# Altium integrated library WE-PD (rev22a).IntLib: 359 symbols (part 6 of 6)
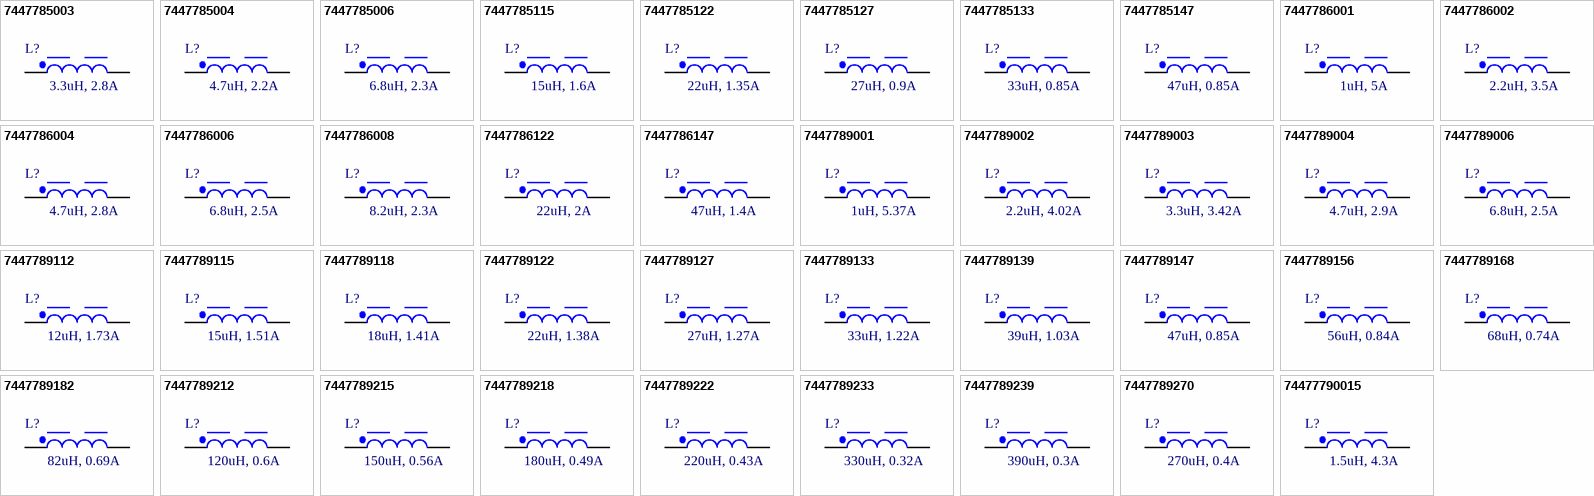
[diagram p13: symbols 7447785003 to 74477790015]

## 7447789006
designator L?, comment 6.8uH, 2.5A
WE-PD SMT Power Inductor, size 7332R, 6.8uH, 2.5A, 44mOhm; Manufacturer: Wurth Elektronik; Manufacturer Part Number: 7447789006; Self Resonant Frequency: 38MHz; DC Resistance typ.: 42mOhm; Saturation Current: 2.75A; Type: Robust; ComponentLink1Description: Manufacturer; ComponentLink1URL: http://www.we-online.de; ComponentLink2Description: Datasheet; ComponentLink2URL: https://www.we-online.com/catalog/datasheet/7447789006.pdf; Mounting Technology: SMT; Operating Temperature: -40 to +125degC; Packaging: Tape and Reel; DC Resistance max.: 44mOhm; Inductance: 6.8uH; Rated Current: 2.5A; Size: 7332R; Height: 3.2mm; Length: 7.3mm; Width: 7.3mm
footprint WE-PD_7332R
pins: 1, 2

## 7447789112
designator L?, comment 12uH, 1.73A
WE-PD SMT Power Inductor, size 7332R, 12uH, 1.73A, 98mOhm; Manufacturer: Wurth Elektronik; Manufacturer Part Number: 7447789112; Self Resonant Frequency: 27MHz; DC Resistance typ.: 76mOhm; Saturation Current: 1.9A; Type: Robust; ComponentLink1Description: Manufacturer; ComponentLink1URL: http://www.we-online.de; ComponentLink2Description: Datasheet; ComponentLink2URL: https://www.we-online.com/catalog/datasheet/7447789112.pdf; Mounting Technology: SMT; Operating Temperature: -40 to +125degC; Packaging: Tape and Reel; DC Resistance max.: 98mOhm; Inductance: 12uH; Rated Current: 1.73A; Size: 7332R; Height: 3.2mm; Length: 7.3mm; Width: 7.3mm
footprint WE-PD_7332R
pins: 1, 2

## 7447789115
designator L?, comment 15uH, 1.51A
WE-PD SMT Power Inductor, size 7332R, 15uH, 1.51A, 130mOhm; Manufacturer: Wurth Elektronik; Manufacturer Part Number: 7447789115; Self Resonant Frequency: 26MHz; DC Resistance typ.: 100mOhm; Saturation Current: 1.75A; Type: Robust; ComponentLink1Description: Manufacturer; ComponentLink1URL: http://www.we-online.de; ComponentLink2Description: Datasheet; ComponentLink2URL: https://www.we-online.com/catalog/datasheet/7447789115.pdf; Mounting Technology: SMT; Operating Temperature: -40 to +125degC; Packaging: Tape and Reel; DC Resistance max.: 130mOhm; Inductance: 15uH; Rated Current: 1.51A; Size: 7332R; Height: 3.2mm; Length: 7.3mm; Width: 7.3mm
footprint WE-PD_7332R
pins: 1, 2

## 7447789118
designator L?, comment 18uH, 1.41A
WE-PD SMT Power Inductor, size 7332R, 18uH, 1.41A, 140mOhm; Manufacturer: Wurth Elektronik; Manufacturer Part Number: 7447789118; Self Resonant Frequency: 24MHz; DC Resistance typ.: 114mOhm; Saturation Current: 1.7A; Type: Robust; ComponentLink1Description: Manufacturer; ComponentLink1URL: http://www.we-online.de; ComponentLink2Description: Datasheet; ComponentLink2URL: https://www.we-online.com/catalog/datasheet/7447789118.pdf; Mounting Technology: SMT; Operating Temperature: -40 to +125degC; Packaging: Tape and Reel; DC Resistance max.: 140mOhm; Inductance: 18uH; Rated Current: 1.41A; Size: 7332R; Height: 3.2mm; Length: 7.3mm; Width: 7.3mm
footprint WE-PD_7332R
pins: 1, 2

## 7447789122
designator L?, comment 22uH, 1.38A
WE-PD SMT Power Inductor, size 7332R, 22uH, 1.38A, 190mOhm; Manufacturer: Wurth Elektronik; Manufacturer Part Number: 7447789122; Self Resonant Frequency: 20MHz; DC Resistance typ.: 119mOhm; Saturation Current: 1.4A; Type: Robust; ComponentLink1Description: Manufacturer; ComponentLink1URL: http://www.we-online.de; ComponentLink2Description: Datasheet; ComponentLink2URL: https://www.we-online.com/catalog/datasheet/7447789122.pdf; Mounting Technology: SMT; Operating Temperature: -40 to +125degC; Packaging: Tape and Reel; DC Resistance max.: 190mOhm; Inductance: 22uH; Rated Current: 1.38A; Size: 7332R; Height: 3.2mm; Length: 7.3mm; Width: 7.3mm
footprint WE-PD_7332R
pins: 1, 2

## 7447789127
designator L?, comment 27uH, 1.27A
WE-PD SMT Power Inductor, size 7332R, 27uH, 1.27A, 210mOhm; Manufacturer: Wurth Elektronik; Manufacturer Part Number: 7447789127; Self Resonant Frequency: 18MHz; DC Resistance typ.: 130mOhm; Saturation Current: 1.35A; Type: Robust; ComponentLink1Description: Manufacturer; ComponentLink1URL: http://www.we-online.de; ComponentLink2Description: Datasheet; ComponentLink2URL: https://www.we-online.com/catalog/datasheet/7447789127.pdf; Mounting Technology: SMT; Operating Temperature: -40 to +125degC; Packaging: Tape and Reel; DC Resistance max.: 210mOhm; Inductance: 27uH; Rated Current: 1.27A; Size: 7332R; Height: 3.2mm; Length: 7.3mm; Width: 7.3mm
footprint WE-PD_7332R
pins: 1, 2

## 7447789133
designator L?, comment 33uH, 1.22A
WE-PD SMT Power Inductor, size 7332R, 33uH, 1.22A, 240mOhm; Manufacturer: Wurth Elektronik; Manufacturer Part Number: 7447789133; Self Resonant Frequency: 16MHz; DC Resistance typ.: 153mOhm; Saturation Current: 1.15A; Type: Robust; ComponentLink1Description: Manufacturer; ComponentLink1URL: http://www.we-online.de; ComponentLink2Description: Datasheet; ComponentLink2URL: https://www.we-online.com/catalog/datasheet/7447789133.pdf; Mounting Technology: SMT; Operating Temperature: -40 to +125degC; Packaging: Tape and Reel; DC Resistance max.: 240mOhm; Inductance: 33uH; Rated Current: 1.22A; Size: 7332R; Height: 3.2mm; Length: 7.3mm; Width: 7.3mm
footprint WE-PD_7332R
pins: 1, 2

## 7447789139
designator L?, comment 39uH, 1.03A
WE-PD SMT Power Inductor, size 7332R, 39uH, 1.03A, 320mOhm; Manufacturer: Wurth Elektronik; Manufacturer Part Number: 7447789139; Self Resonant Frequency: 14MHz; DC Resistance typ.: 209mOhm; Saturation Current: 1.1A; Type: Robust; ComponentLink1Description: Manufacturer; ComponentLink1URL: http://www.we-online.de; ComponentLink2Description: Datasheet; ComponentLink2URL: https://www.we-online.com/catalog/datasheet/7447789139.pdf; Mounting Technology: SMT; Operating Temperature: -40 to +125degC; Packaging: Tape and Reel; DC Resistance max.: 320mOhm; Inductance: 39uH; Rated Current: 1.03A; Size: 7332R; Height: 3.2mm; Length: 7.3mm; Width: 7.3mm
footprint WE-PD_7332R
pins: 1, 2

## 7447789147
designator L?, comment 47uH, 0.85A
WE-PD SMT Power Inductor, size 7332R, 47uH, 0.85A, 360mOhm; Manufacturer: Wurth Elektronik; Manufacturer Part Number: 7447789147; Self Resonant Frequency: 13.5MHz; DC Resistance typ.: 315mOhm; Saturation Current: 1A; Type: Robust; ComponentLink1Description: Manufacturer; ComponentLink1URL: http://www.we-online.de; ComponentLink2Description: Datasheet; ComponentLink2URL: https://www.we-online.com/catalog/datasheet/7447789147.pdf; Mounting Technology: SMT; Operating Temperature: -40 to +125degC; Packaging: Tape and Reel; DC Resistance max.: 360mOhm; Inductance: 47uH; Rated Current: 0.85A; Size: 7332R; Height: 3.2mm; Length: 7.3mm; Width: 7.3mm
footprint WE-PD_7332R
pins: 1, 2

## 7447789156
designator L?, comment 56uH, 0.84A
WE-PD SMT Power Inductor, size 7332R, 56uH, 0.84A, 470mOhm; Manufacturer: Wurth Elektronik; Manufacturer Part Number: 7447789156; Self Resonant Frequency: 12.5MHz; DC Resistance typ.: 335mOhm; Saturation Current: 0.9A; Type: Robust; ComponentLink1Description: Manufacturer; ComponentLink1URL: http://www.we-online.de; ComponentLink2Description: Datasheet; ComponentLink2URL: https://www.we-online.com/catalog/datasheet/7447789156.pdf; Mounting Technology: SMT; Operating Temperature: -40 to +125degC; Packaging: Tape and Reel; DC Resistance max.: 470mOhm; Inductance: 56uH; Rated Current: 0.84A; Size: 7332R; Height: 3.2mm; Length: 7.3mm; Width: 7.3mm
footprint WE-PD_7332R
pins: 1, 2

## 7447789168
designator L?, comment 68uH, 0.74A
WE-PD SMT Power Inductor, size 7332R, 68uH, 0.74A, 520mOhm; Manufacturer: Wurth Elektronik; Manufacturer Part Number: 7447789168; Self Resonant Frequency: 11.5MHz; DC Resistance typ.: 420mOhm; Saturation Current: 0.84A; Type: Robust; ComponentLink1Description: Manufacturer; ComponentLink1URL: http://www.we-online.de; ComponentLink2Description: Datasheet; ComponentLink2URL: https://www.we-online.com/catalog/datasheet/7447789168.pdf; Mounting Technology: SMT; Operating Temperature: -40 to +125degC; Packaging: Tape and Reel; DC Resistance max.: 520mOhm; Inductance: 68uH; Rated Current: 0.74A; Size: 7332R; Height: 3.2mm; Length: 7.3mm; Width: 7.3mm
footprint WE-PD_7332R
pins: 1, 2

## 7447789182
designator L?, comment 82uH, 0.69A
WE-PD SMT Power Inductor, size 7332R, 82uH, 0.69A, 690mOhm; Manufacturer: Wurth Elektronik; Manufacturer Part Number: 7447789182; Self Resonant Frequency: 9.8MHz; DC Resistance typ.: 470mOhm; Saturation Current: 0.78A; Type: Robust; ComponentLink1Description: Manufacturer; ComponentLink1URL: http://www.we-online.de; ComponentLink2Description: Datasheet; ComponentLink2URL: https://www.we-online.com/catalog/datasheet/7447789182.pdf; Mounting Technology: SMT; Operating Temperature: -40 to +125degC; Packaging: Tape and Reel; DC Resistance max.: 690mOhm; Inductance: 82uH; Rated Current: 0.69A; Size: 7332R; Height: 3.2mm; Length: 7.3mm; Width: 7.3mm
footprint WE-PD_7332R
pins: 1, 2

## 7447789212
designator L?, comment 120uH, 0.6A
WE-PD SMT Power Inductor, size 7332R, 120uH, 0.6A, 890mOhm; Manufacturer: Wurth Elektronik; Manufacturer Part Number: 7447789212; Self Resonant Frequency: 8.5MHz; DC Resistance typ.: 563mOhm; Saturation Current: 0.68A; Type: Robust; ComponentLink1Description: Manufacturer; ComponentLink1URL: http://www.we-online.de; ComponentLink2Description: Datasheet; ComponentLink2URL: https://www.we-online.com/catalog/datasheet/7447789212.pdf; Mounting Technology: SMT; Operating Temperature: -40 to +125degC; Packaging: Tape and Reel; DC Resistance max.: 890mOhm; Inductance: 120uH; Rated Current: 0.6A; Size: 7332R; Height: 3.2mm; Length: 7.3mm; Width: 7.3mm
footprint WE-PD_7332R
pins: 1, 2

## 7447789215
designator L?, comment 150uH, 0.56A
WE-PD SMT Power Inductor, size 7332R, 150uH, 0.56A, 1270mOhm; Manufacturer: Wurth Elektronik; Manufacturer Part Number: 7447789215; Self Resonant Frequency: 7.2MHz; DC Resistance typ.: 720mOhm; Saturation Current: 0.53A; Type: Robust; ComponentLink1Description: Manufacturer; ComponentLink1URL: http://www.we-online.de; ComponentLink2Description: Datasheet; ComponentLink2URL: https://www.we-online.com/catalog/datasheet/7447789215.pdf; Mounting Technology: SMT; Operating Temperature: -40 to +125degC; Packaging: Tape and Reel; DC Resistance max.: 1270mOhm; Inductance: 150uH; Rated Current: 0.56A; Size: 7332R; Height: 3.2mm; Length: 7.3mm; Width: 7.3mm
footprint WE-PD_7332R
pins: 1, 2

## 7447789218
designator L?, comment 180uH, 0.49A
WE-PD SMT Power Inductor, size 7332R, 180uH, 0.49A, 1450mOhm; Manufacturer: Wurth Elektronik; Manufacturer Part Number: 7447789218; Self Resonant Frequency: 7MHz; DC Resistance typ.: 960mOhm; Saturation Current: 0.5A; Type: Robust; ComponentLink1Description: Manufacturer; ComponentLink1URL: http://www.we-online.de; ComponentLink2Description: Datasheet; ComponentLink2URL: https://www.we-online.com/catalog/datasheet/7447789218.pdf; Mounting Technology: SMT; Operating Temperature: -40 to +125degC; Packaging: Tape and Reel; DC Resistance max.: 1450mOhm; Inductance: 180uH; Rated Current: 0.49A; Size: 7332R; Height: 3.2mm; Length: 7.3mm; Width: 7.3mm
footprint WE-PD_7332R
pins: 1, 2

## 7447789222
designator L?, comment 220uH, 0.43A
WE-PD SMT Power Inductor, size 7332R, 220uH, 0.43A, 1650mOhm; Manufacturer: Wurth Elektronik; Manufacturer Part Number: 7447789222; Self Resonant Frequency: 6MHz; DC Resistance typ.: 1350mOhm; Saturation Current: 0.42A; Type: Robust; ComponentLink1Description: Manufacturer; ComponentLink1URL: http://www.we-online.de; ComponentLink2Description: Datasheet; ComponentLink2URL: https://www.we-online.com/catalog/datasheet/7447789222.pdf; Mounting Technology: SMT; Operating Temperature: -40 to +125degC; Packaging: Tape and Reel; DC Resistance max.: 1650mOhm; Inductance: 220uH; Rated Current: 0.43A; Size: 7332R; Height: 3.2mm; Length: 7.3mm; Width: 7.3mm
footprint WE-PD_7332R
pins: 1, 2

## 7447789233
designator L?, comment 330uH, 0.32A
WE-PD SMT Power Inductor, size 7332R, 330uH, 0.32A, 2620mOhm; Manufacturer: Wurth Elektronik; Manufacturer Part Number: 7447789233; Self Resonant Frequency: 4.8MHz; DC Resistance typ.: 2280mOhm; Saturation Current: 0.35A; Type: Robust; ComponentLink1Description: Manufacturer; ComponentLink1URL: http://www.we-online.de; ComponentLink2Description: Datasheet; ComponentLink2URL: https://www.we-online.com/catalog/datasheet/7447789233.pdf; Mounting Technology: SMT; Operating Temperature: -40 to +125degC; Packaging: Tape and Reel; DC Resistance max.: 2620mOhm; Inductance: 330uH; Rated Current: 0.32A; Size: 7332R; Height: 3.2mm; Length: 7.3mm; Width: 7.3mm
footprint WE-PD_7332R
pins: 1, 2

## 7447789239
designator L?, comment 390uH, 0.3A
WE-PD SMT Power Inductor, size 7332R, 390uH, 0.3A, 2940mOhm; Manufacturer: Wurth Elektronik; Manufacturer Part Number: 7447789239; Self Resonant Frequency: 4.4MHz; DC Resistance typ.: 2490mOhm; Saturation Current: 0.34A; Type: Robust; ComponentLink1Description: Manufacturer; ComponentLink1URL: http://www.we-online.de; ComponentLink2Description: Datasheet; ComponentLink2URL: https://www.we-online.com/catalog/datasheet/7447789239.pdf; Mounting Technology: SMT; Operating Temperature: -40 to +125degC; Packaging: Tape and Reel; DC Resistance max.: 2940mOhm; Inductance: 390uH; Rated Current: 0.3A; Size: 7332R; Height: 3.2mm; Length: 7.3mm; Width: 7.3mm
footprint WE-PD_7332R
pins: 1, 2

## 7447789270
designator L?, comment 270uH, 0.4A
WE-PD SMT Power Inductor, size 7332R, 270uH, 0.4A, 2310mOhm; Manufacturer: Wurth Elektronik; Manufacturer Part Number: 7447789270; Self Resonant Frequency: 5.2MHz; DC Resistance typ.: 1470mOhm; Saturation Current: 0.39A; Type: Robust; ComponentLink1Description: Manufacturer; ComponentLink1URL: http://www.we-online.de; ComponentLink2Description: Datasheet; ComponentLink2URL: https://www.we-online.com/catalog/datasheet/7447789270.pdf; Mounting Technology: SMT; Operating Temperature: -40 to +125degC; Packaging: Tape and Reel; DC Resistance max.: 2310mOhm; Inductance: 270uH; Rated Current: 0.4A; Size: 7332R; Height: 3.2mm; Length: 7.3mm; Width: 7.3mm
footprint WE-PD_7332R
pins: 1, 2

## 74477790015
designator L?, comment 1.5uH, 4.3A
WE-PD SMT Power Inductor, size 7345R, 1.5uH, 4.3A, 18mOhm; Manufacturer: Wurth Elektronik; Manufacturer Part Number: 74477790015; Self Resonant Frequency: 75MHz; DC Resistance typ.: 15mOhm; Saturation Current: 7.3A; Type: Robust; ComponentLink1Description: Manufacturer; ComponentLink1URL: http://www.we-online.de; ComponentLink2Description: Datasheet; ComponentLink2URL: https://www.we-online.com/catalog/datasheet/74477790015.pdf; Mounting Technology: SMT; Operating Temperature: -40 to +125degC; Packaging: Tape and Reel; DC Resistance max.: 18mOhm; Inductance: 1.5uH; Rated Current: 4.3A; Size: 7345R; Height: 4.5mm; Length: 7.3mm; Width: 7.3mm
footprint WE-PD_7345R
pins: 1, 2